# Altium schematic symbol library GCJ21BR71E225KA01L.SchLib: 1 symbol
Pins are listed as number, name and electrical type; pins without a type are passive.

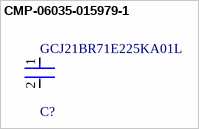
[diagram p0: symbol CMP-06035-015979-1]

## CMP-06035-015979-1
designator C?, comment GCJ21BR71E225KA01L
Multilayer Ceramic Capacitors MLCC - SMD/SMT 0805 2.2uF 10%, 25VDC,  X7R 15%
footprint FP-GCJ21B-0_3-IPC_B
footprint FP-GCJ21B-0_3-IPC_C
footprint FP-GCJ21B-0_3-IPC_A
footprint FP-GCJ21B-0_3-MFG
pins: 1, 2